# Altium schematic symbol library IRLZ44NPBF.SchLib: 1 symbol
Pins are listed as number, name and electrical type; pins without a type are passive.

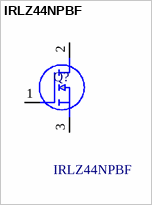
[diagram p0: symbol IRLZ44NPBF]

## IRLZ44NPBF
designator Q?
N-channel MOSFET,IRLZ44N 47A 55V; Manufacturer_Name: Infineon; Geometry.Height: 4.69mm; Mouser Part Number: 942-IRLZ44NPBF; Mouser Price/Stock: https://www.mouser.co.uk/ProductDetail/Infineon-Technologies/IRLZ44NPBF?qs=9%252BKlkBgLFf15OZZk%252BD0ibg%3D%3D; Manufacturer_Part_Number: IRLZ44NPBF; Datasheet Link: http://www.irf.com/product-info/datasheets/data/irlz44n.pdf
footprint TO254P469X1042X1967-3P
pins: 1 G, 2 D, 3 S